# Altium footprint library RB.PcbLib: 23 footprints (part 2 of 2)
Each footprint in its own frame and in the unit in brackets; x right, y up, seen from the top. Pads: shape width x height; smd on the part's side, far side on the other; paste and mask are expansions set on the pad; w line width, h text height; cw(c..) or ccw(c..) is an arc to the next point about the centre after c.
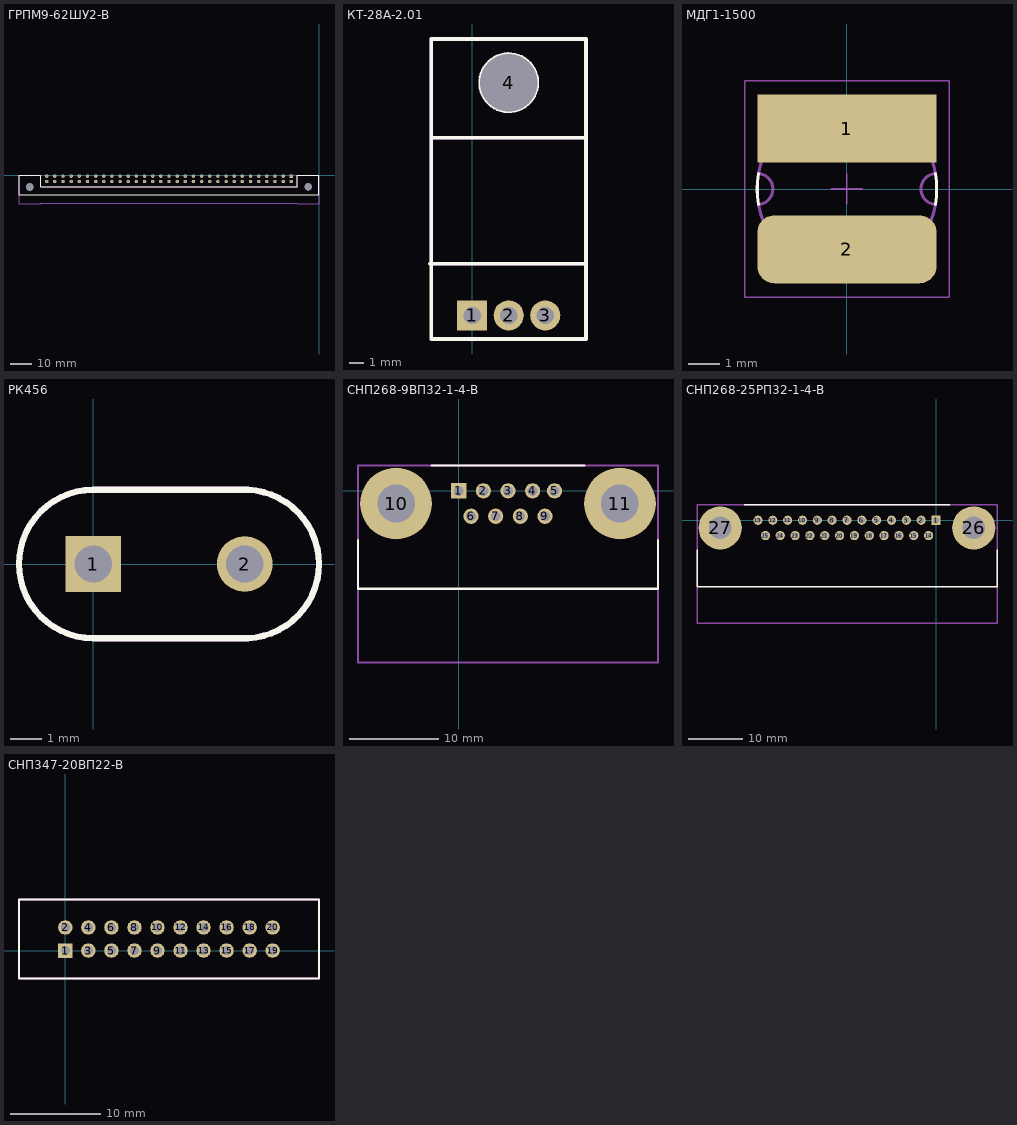
[diagram p1: the footprints below, top view; thin cyan lines are the x and y axes]

## ГРПМ9-62ШУ2-В [mm]
pads (64):
  round 3.2 hole 3.5: 1(-133,-5.35) 2(-5,-5.3)
  rect 1.6x1.6 hole 1: 1A(-12.75,-0.3)
  round 1.6 hole 1: 1B(-12.75,-2.8) 2A(-16.5,-0.3) 2B(-16.5,-2.8) 3A(-20.25,-0.3) 3B(-20.25,-2.8) 4A(-24,-0.3) 4B(-24,-2.8) 5A(-27.75,-0.3) 5B(-27.75,-2.8) 6A(-31.5,-0.3) 6B(-31.5,-2.8) 7A(-35.25,-0.3) 7B(-35.25,-2.8) 8A(-39,-0.3) 8B(-39,-2.8) 9A(-42.75,-0.3) 9B(-42.75,-2.8) 10A(-46.5,-0.3) 10B(-46.5,-2.8) 11A(-50.25,-0.3) 11B(-50.25,-2.8) 12A(-54,-0.3) 12B(-54,-2.8) 13A(-57.75,-0.3) 13B(-57.75,-2.8) 14A(-61.5,-0.3) 14B(-61.5,-2.8) 15A(-65.25,-0.3) 15B(-65.25,-2.8) 16A(-69,-0.3) 16B(-69,-2.8) 17A(-72.75,-0.3) 17B(-72.75,-2.8) 18A(-76.5,-0.3) 18B(-76.5,-2.8) 19A(-80.25,-0.3) 19B(-80.25,-2.8) 20A(-84,-0.3) 20B(-84,-2.8) 21A(-87.75,-0.3) 21B(-87.75,-2.8) 22A(-91.5,-0.3) 22B(-91.5,-2.8) 23A(-95.25,-0.3) 23B(-95.25,-2.8) 24A(-99,-0.3) 24B(-99,-2.8) 25A(-102.75,-0.3) 25B(-102.75,-2.8) 26A(-106.5,-0.3) 26B(-106.5,-2.8) 27A(-110.25,-0.3) 27B(-110.25,-2.8) 28A(-114,-0.3) 28B(-114,-2.8) 29A(-117.75,-0.3) 29B(-117.75,-2.8) 30A(-121.5,-0.3) 30B(-121.5,-2.8) 31A(-125.25,-0.3) 31B(-125.25,-2.8)
Top Overlay:
  lines w0.254: -10,-5.275 -128.1,-5.275 -128.1,0 -138,0 -138,-9 -128.025,-9 -9.975,-9 0,-9 0,0 -10,0 -10,-5.25
Mechanical 13:
  lines w0.254: -128.025,-12.8 -128.025,-13 -138,-13 -138,0 -128.1,0 -128.1,-5.275 -10.025,-5.275 ; -128,-12.8 -9.975,-12.8 -9.975,-12.975 ; -10,-5.25 -10,-0.05 -9.95,0 0,0 0,-12.975 -0.025,-13 -9.95,-13

## КТ-28А-2.01 [mm]
pads (4):
  rect 2.1x2.1 hole 1.2: 1(0,7.5)
  round 2.1 hole 1.2: 2(2.55,7.5) 3(5.1,7.5)
  round 2 hole 4: 4(2.55,23.75)
Top Overlay:
  circle w0.254: c2.55,23.75 r2
  lines w0.254: -2.95,11.1 7.85,11.1 ; -2.725,19.9 7.925,19.9 ; -2.85,5.85 -2.85,26.8 7.95,26.8 7.95,5.85 -2.85,5.85
Mechanical 13:
  circle w0.254: c2.55,23.75 r1.8
  lines w0.254: -2.65,19.9 7.9,19.9 ; -2.85,11.1 -2.85,26.8 7.95,26.8 7.95,11.1 -2.85,11.1
3D body "MOSFET TO-220-DEFAULT.SLDPRT": height 4.2, standoff -3, extent -2.53,7.21 7.63,26.7

## МДГ1-1500 [mm]
pads (2):
  rect 5.8x2.2 smd: 1(0,1.95)
  rrect50% 5.8x2.2 smd: 2(0,-1.95)
Top Overlay:
  lines w0.1: -2.856,-0.504 cw(c0,0) -2.856,0.504 ; 2.856,-0.504 ccw(c0,0) 2.856,0.504
Mechanical 13:
  lines w0.1: -2.856,-0.503 ccw(c0,0) 2.856,-0.504 cw(c2.9,0) 2.856,0.504 ccw(c0,0) -2.856,0.503 ; -2.801,-0.494 ccw(c-2.9,0) -2.802,0.494
Mechanical 15:
  lines w0.05: -0.5,0 0.5,0 ; 0,-0.5 0,0.5 ; -3.3,-3.5 3.3,-3.5 3.3,3.5 -3.3,3.5 -3.3,-3.5

## РК456 [mm]
pads (2):
  rect 1.8x1.8 hole 1.2: 1(0,0)
  round 1.8 hole 1.2: 2(4.9,0)
Top Overlay:
  lines w0.2: 0,-2.4 cw(c0,0) 0,2.4 5,2.4 cw(c4.9,0) 5,-2.4 0,-2.4
Mechanical 13:
  lines w0.2: 0,-2.4 cw(c0,0) 0,2.4 5,2.4 cw(c4.9,0) 5,-2.4 0,-2.4

## СНП268-9ВП32-1-4-В [mm]
pads (11):
  rect 1.7x1.7 hole 1.1: 1(0,0)
  round 1.7 hole 1.1: 2(2.75,0) 3(5.5,0) 4(8.25,0) 5(10.7,0) 6(1.375,-2.84) 7(4.125,-2.84) 8(6.875,-2.84) 9(9.625,-2.84)
  round 8 hole 4.2: 10(-7,-1.42) 11(18,-1.42)
Top Overlay:
  lines w0.254: -11.25,-5.5 -11.25,-10.94 22.25,-10.94 22.25,-5.5 ; -3,2.83 14,2.83
Mechanical 13:
  lines w0.254: -11.25,-19.17 22.25,-19.17 22.25,2.83 -11.25,2.83 -11.25,-19.17

## СНП268-25РП32-1-4-В [mm]
pads (27):
  rect 1.7x1.7 hole 1.1: 1(0,0)
  round 1.7 hole 1.1: 2(-2.75,0) 3(-5.5,0) 4(-8.25,0) 5(-11,0) 6(-13.75,0) 7(-16.5,0) 8(-19.25,0) 9(-22,0) 10(-24.75,0) 11(-27.5,0) 12(-30.25,0) 13(-33,0) 14(-1.375,-2.84) 15(-4.125,-2.84) 16(-6.875,-2.84) 17(-9.625,-2.84) 18(-12.375,-2.84) 19(-15.125,-2.84) 20(-17.875,-2.84) 21(-20.625,-2.84) 22(-23.375,-2.84) 23(-26.125,-2.84) 24(-28.875,-2.84) 25(-31.625,-2.84)
  round 8 hole 4.2: 26(7,-1.42) 27(-40,-1.42)
Top Overlay:
  lines w0.254: -44.3,-5.5 -44.3,-12.34 -37.865,-12.34 11.3,-12.34 11.3,-5.5 ; -35.5,2.9 2.5,2.9
Mechanical 13:
  lines w0.254: -44.3,-19.12 -44.3,2.88 11.3,2.88 11.3,-19.12 -44.3,-19.12

## СНП347-20ВП22-В [mm]
pads (20):
  rect 1.6x1.6 hole 1.02: 1(0,0)
  round 1.6 hole 1.02: 2(0,2.54) 3(2.54,0) 4(2.54,2.54) 5(5.08,0) 6(5.08,2.54) 7(7.62,0) 8(7.62,2.54) 9(10.16,0) 10(10.16,2.54) 11(12.7,0) 12(12.7,2.54) 13(15.24,0) 14(15.24,2.54) 15(17.78,0) 16(17.78,2.54) 17(20.32,0) 18(20.32,2.54) 19(22.86,0) 20(22.86,2.54)
Top Overlay:
  lines w0.254: -5.12,-3.08 -5.12,5.62 27.98,5.62 27.98,-3.08 -5.12,-3.08
Mechanical 13:
  lines w0.254: -5.12,-3.08 -5.12,5.62 27.98,5.62 27.98,-3.08 -5.12,-3.08